# Altium integrated library Big_Library_Trimpot.IntLib: 3 symbols
Pins are listed as number, name and electrical type; pins without a type are passive.

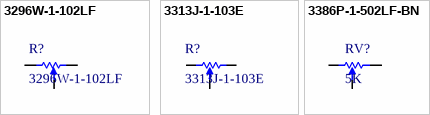
[diagram p0: symbols 3296W-1-102LF to 3386P-1-502LF-BN]

## 3296W-1-102LF
designator R?
Square Trimpot(R) Trimming Potentiometer, 1000 Ohm, -55 to 125 degC, 3-Pin THD, RoHS, Tube; Case\Package: 0603; Tolerance: 1%; Power Rating: 100 mW; Voltage Rating: 75 V; Resistance: 4.7 kohm; ComponentLink2URL: http://www.bourns.com/docs/Product-Datasheets/3296.pdf; Packaging: Tape and Reel; REACH SVHC: Yes; ComponentLink1URL: http://www.bourns.com/; Case Code (Metric): 1608; Width: 0.8 mm; ComponentLink1Description: Manufacturer URL; DatasheetVersion: May-16; Max Operating Temperature: 155 degC; PackageReference: 3296W-1-3; PackageDescription: 3-Pin Through Hole Device, Body 9.53 x 4.83 mm, Pitch 2.54 mm; Weight: 7.1E-05 oz; ComponentLink2Description: Datasheet; RoHSCompliant: true; Min Operating Temperature: -55 degC; Radiation Hardening: No; Case Code (Imperial): 0603; Length: 1.6 mm; Package Quantity: 5000; Pins: 2; Mount: Surface Mount; Height: 0.45 mm
footprint BOUR-3296W-1-3 (THD, 3-Leads, Body 9.53x4.83mm, Pitch 2.54mm)
pins: 1 A, 2 B, 3 TAP

## 3313J-1-103E
designator R?
Trimming Potentiometer, 10 KOhm, -55 to 125 degC, 3-Pin SMD, RoHS, Tape and Reel; Manufacturer: Bourns; Resistance Tolerance: ±20%; Track Resistance: 10kohm; SVHC: NoSVHC(16-Jun-2014); No. of Turns: 1; Temperature Coefficient: ±100ppm/°C; Power Rating: 125mW; Potentiometer Mounting: SMD; RoHS Compliant: Yes; Datasheet URL: http://www.bourns.com/docs/Product-Datasheets/3313.pdf; Mounting Technology: SurfaceMount; Manufacturer URL: http://www.bourns.com/; Package Description: 3-Pin Surface Mount Device, Body 3.5 x 3.2 mm, Pitch 1.15 mm; Package Reference: 3313J-1; Datasheet Version: 05/2016
footprint BOUR-3313J-1_V (SMD, 3-Leads, Body 3.5x3.2mm, Pitch 1.15mm)
pins: 1, 2, 3

## 3386P-1-502LF-BN
designator RV?, comment 5K
TRIMPOT CERMET SINGLE TURN VER.ADJ 5K 0.5W; Tolerance: 10%; Resistance: 5K; Power: 0.5W; Size: 9.5X9.5X4.8mm; ComponentLink1Description: Link; ComponentLink1URL: https://ozdisan.com/elektromekanik-komponentler/potansiyometreler-ve-trimpotlar/trimpot-potansiyometreler/3386P-1-502LF-BN/497155
footprint 3386P-1-502LF-BN
pins: 1, 2, 3